# Altium footprint library GOSTCapacitor.PcbLib: 17 footprints (part 2 of 2)
Each footprint in its own frame and in the unit in brackets; x right, y up, seen from the top. Pads: shape width x height; smd on the part's side, far side on the other; paste and mask are expansions set on the pad; w line width, h text height; cw(c..) or ccw(c..) is an arc to the next point about the centre after c.
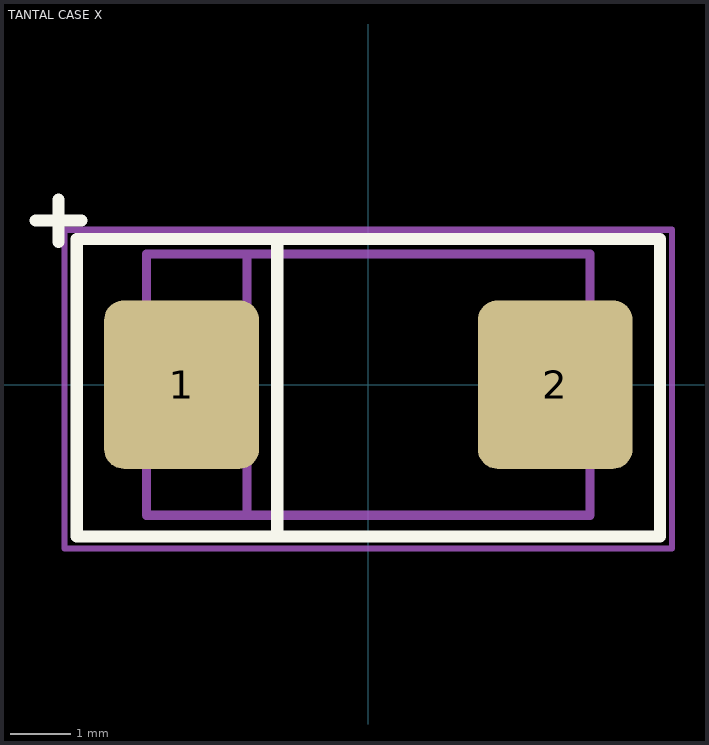
[diagram p1: the footprint, top view; thin cyan lines are the x and y axes]

## TANTAL CASE X [mm]
height 4.1
pads (2):
  rrect25% 2.55x2.77 smd: 1(-3.075,0) 2(3.075,0)
Top Overlay:
  lines w0.2: -5.475,2.7 -4.725,2.7 ; -5.1,2.35 -5.1,3.05 ; -1.5,-2.5 -1.5,2.4 ; -4.8,-2.5 -4.8,2.4 4.8,2.4 4.8,-2.5 -4.8,-2.5
Mechanical 7:
  lines w0.15: -2,-2.15 -2,2.15 ; -3.65,-2.15 -3.65,2.15 3.65,2.15 3.65,-2.15 -3.65,-2.15
Mechanical 9:
  text ".Designator" at -4.2,3 h3
Mechanical 10:
  text ".Comment" at -2.3,-4.2 h2
Mechanical 15:
  lines w0.1: -5,-2.7 -5,2.55 5,2.55 5,-2.7 -5,-2.7
3D body "User Library-CaseX_7343-43.step": height 4, standoff 0, extent -3.65,-2.15 3.65,2.15